# Altium schematic symbol library Resistor_500.SchLib: 1 symbol
Pins are listed as number, name and electrical type; pins without a type are passive.

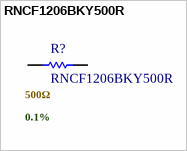
[diagram p0: symbol RNCF1206BKY500R]

## RNCF1206BKY500R
designator R?  .Tolerance: 0.1%  .Value: 500Ω  (mechanical)
Res Thin Film 1206 500 Ohm 0.1% 0.125W ±5ppm/°C Molded SMD Paper T/R; Manufacturer: Stackpole Electronics; Max Power Dissipation: 250mW; Power Rating: 125mW; Value: 500Ω; Working Voltage: 150V; Supplier: Avnet; Supplier Part Number: RNCF1206BKY500R; Manufacturer Part Number: RNCF1206BKY500R; RoHS: Compliant; Category: Chip SMD Resistors; Stock: 1000; Pricing: 1000=1,35429, 2000=1,28108, 4000=1,24737, 6000=1,21539, 8000=1,185 (USD); Case/Package: 1206; Composition: Thin Film; Features: Moisture Resistant; Height: 550µm; Length: 3.2004mm; Lifecycle Status: Production; Max Operating Temperature: 155°C; Min Operating Temperature: -55°C; Mounting Technology: Surface Mount; Number of Terminals: 2; Number of Terminations: 2; Packaging: Tape & Reel (TR); Power Dissipation: 250mW; REACH SVHC: Yes; Temperature Coefficient: 5ppm/°C; Tolerance: 0.1%; Width: 1.55mm; ComponentLink1URL: https://datasheet.octopart.com:443/RNCF1206BKY500R-Stackpole-Electronics-datasheet-170576579.pdf?src-supplier=IHS; ComponentLink1Description: https://datasheet.octopart.com:443/RNCF1206BKY500R-Stackpole-Electronics-datasheet-170576579.pdf?src-supplier=IHS; ComponentLink2URL: https://datasheet.octopart.com:443/RNCF1206BKY500R-Stackpole-Electronics-datasheet-141158876.pdf?src-supplier=Future+Electronics; ComponentLink2Description: https://datasheet.octopart.com:443/RNCF1206BKY500R-Stackpole-Electronics-datasheet-141158876.pdf?src-supplier=Future+Electronics; ComponentLink3URL: https://datasheet.octopart.com:443/RNCF1206BKY500R-Stackpole-Electronics-datasheet-28504821.pdf?src-supplier=Future+Electronics; ComponentLink3Description: https://datasheet.octopart.com:443/RNCF1206BKY500R-Stackpole-Electronics-datasheet-28504821.pdf?src-supplier=Future+Electronics; ComponentLink4URL: https://datasheet.octopart.com:443/RNCF1206BKY500R-Stackpole-Electronics-datasheet-12511394.pdf?src-supplier=Stackpole+Electronics; ComponentLink4Description: https://datasheet.octopart.com:443/RNCF1206BKY500R-Stackpole-Electronics-datasheet-12511394.pdf?src-supplier=Stackpole+Electronics; ComponentLink5URL: https://datasheet.octopart.com/RNCF1206BKY500R-Stackpole-Electronics-datasheet-11755897.pdf; ComponentLink5Description: https://datasheet.octopart.com/RNCF1206BKY500R-Stackpole-Electronics-datasheet-11755897.pdf; ComponentLink6URL: http://sigma.octopart.com:80/15941409/materials_sheet/Stackpole-Electronics-RNCF1206BKY500R.pdf?src-supplier=Compliance+Statements; ComponentLink6Description: http://sigma.octopart.com:80/15941409/materials_sheet/Stackpole-Electronics-RNCF1206BKY500R.pdf?src-supplier=Compliance+Statements; ComponentLink7URL: http://sigma.octopart.com:80/141158212/rohs_statement/Stackpole-Electronics-RNCF1206BKY500R.pdf?src-supplier=Compliance+Statements; ComponentLink7Description: http://sigma.octopart.com:80/141158212/rohs_statement/Stackpole-Electronics-RNCF1206BKY500R.pdf?src-supplier=Compliance+Statements; ComponentLink8URL: http://sigma.octopart.com:80/141158211/reach_statement/Stackpole-Electronics-RNCF1206BKY500R.pdf?src-supplier=Compliance+Statements; ComponentLink8Description: http://sigma.octopart.com:80/141158211/reach_statement/Stackpole-Electronics-RNCF1206BKY500R.pdf?src-supplier=Compliance+Statements; Supplier 1: DigiKey; Supplier Part Number 1: 738-RNCF1206BKY500RCT-ND
footprint Chip-Resistor-500
pins: 1, 2